# Altium footprint library 3316437.PcbLib: 1 footprints
Each footprint in its own frame and in the unit in brackets; x right, y up, seen from the top. Pads: shape width x height; smd on the part's side, far side on the other; paste and mask are expansions set on the pad; w line width, h text height; cw(c..) or ccw(c..) is an arc to the next point about the centre after c.
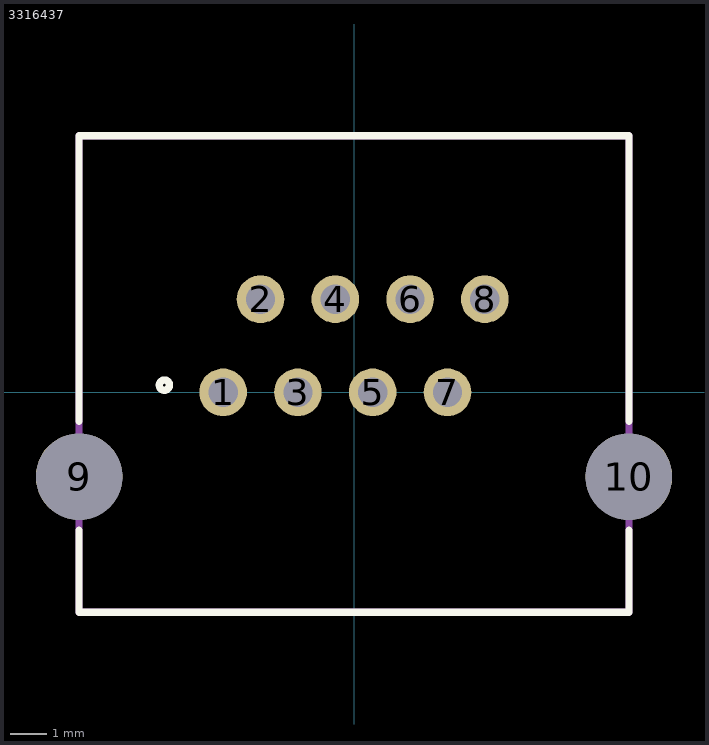
[diagram p0: the footprint, top view; thin cyan lines are the x and y axes]

## 3316437 [mm]
pads (10):
  round 1.3 hole 0.8: 1(-3.57,0) 2(-2.55,2.54) 3(-1.53,0) 4(-0.51,2.54) 5(0.51,0) 6(1.53,2.54) 7(2.55,0) 8(3.57,2.54)
  round 2.36 hole 2.36 unplated: 9(-7.5,-2.3) 10(7.5,-2.3)
L26-Silk Screen Top (Multiple PADS layers...):
  circle w0.2: c-5.173,0.197 r0.139
  lines w0.2: -7.5,-3.756 -7.5,-6 7.5,-6 7.5,-3.756 ; -7.5,-0.786 -7.5,7 7.5,7 7.5,-0.786
L15 (Multiple PADS layers...):
  lines w0.2: -7.5,-6 7.5,-6 7.5,7 -7.5,7 -7.5,-6